# Altium schematic symbol library SS.SchLib: 14 symbols
Pins are listed as number, name and electrical type; pins without a type are passive.

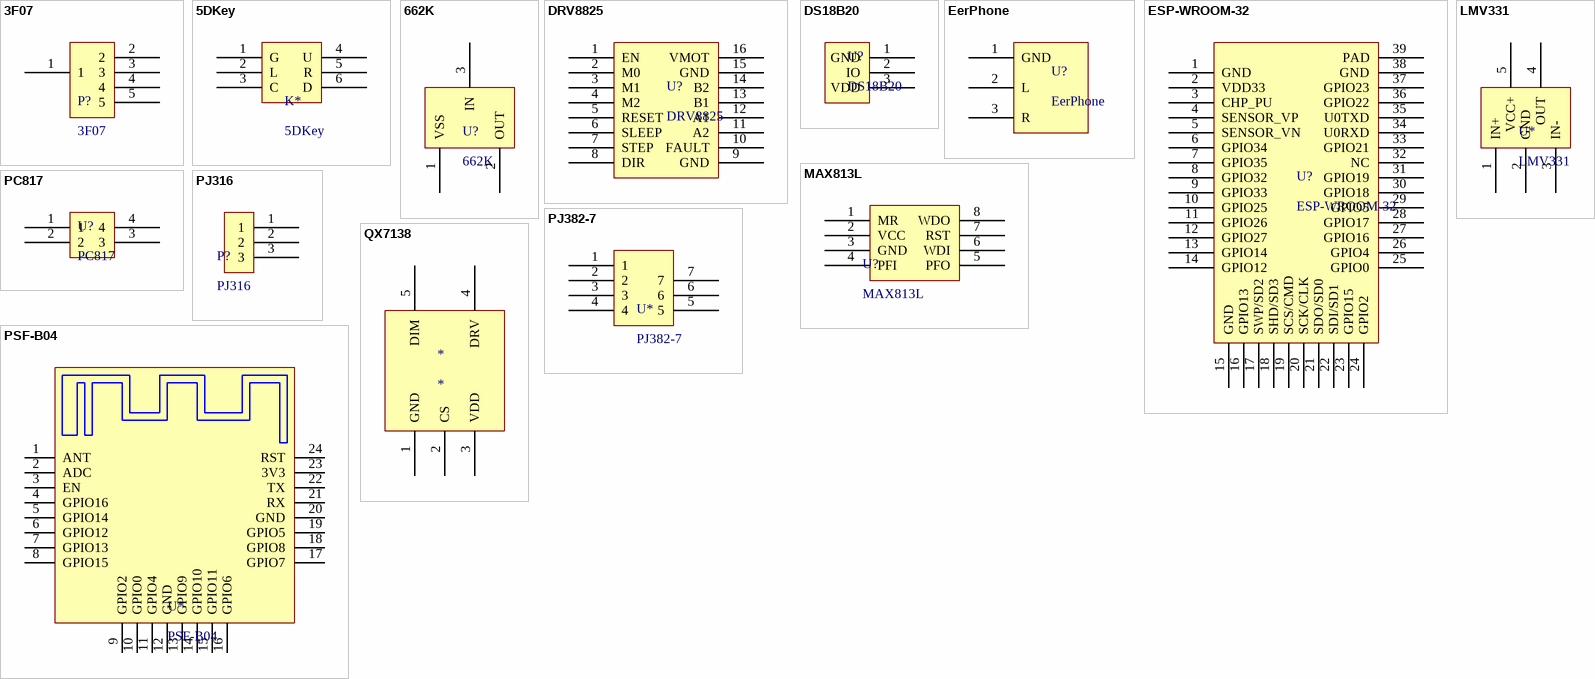
[diagram p0: symbols 3F07 to QX7138]

## 3F07
designator P?
EarPhone3.5
pins: 1, 2, 3, 4, 5

## 5DKey
designator K*
pins: 1 G, 2 L, 3 C, 4 U, 5 R, 6 D

## 662K
designator U?
footprint SOT-23 (SOT-23-3)
pins: 1 VSS, 2 OUT, 3 IN

## DRV8825
designator U?
pins: 1 EN, 2 M0, 3 M1, 4 M2, 5 RESET, 6 SLEEP, 7 STEP, 8 DIR, 9 GND, 10 FAULT, 11 A2, 12 A1, 13 B1, 14 B2, 15 GND, 16 VMOT

## DS18B20
designator U?
pins: 1 GND, 2 IO, 3 VDD

## EerPhone
designator U?
pins: 1 GND, 2 L, 3 R

## ESP-WROOM-32
designator U?
pins: 1 GND, 2 VDD33, 3 CHP_PU, 4 SENSOR_VP, 5 SENSOR_VN, 6 GPIO34, 7 GPIO35, 8 GPIO32, 9 GPIO33, 10 GPIO25, 11 GPIO26, 12 GPIO27, 13 GPIO14, 14 GPIO12, 15 GND, 16 GPIO13, 17 SWP/SD2, 18 SHD/SD3, 19 SCS/CMD, 20 SCK/CLK, 21 SDO/SD0, 22 SDI/SD1, 23 GPIO15, 24 GPIO2, 25 GPIO0, 26 GPIO4, 27 GPIO16, 28 GPIO17, 29 GPIO5, 30 GPIO18, 31 GPIO19, 32 NC, 33 GPIO21, 34 U0RXD, 35 U0TXD, 36 GPIO22, 37 GPIO23, 38 GND, 39 PAD

## LMV331
designator U*
LMV331-SOT23-5
footprint SOT-23-5
pins: 1 IN+, 2 GND, 3 IN-, 4 OUT, 5 VCC+

## MAX813L
designator U?
pins: 1 MR, 2 VCC, 3 GND, 4 PFI, 5 PFO, 6 WDI, 7 RST, 8 WDO

## PC817
designator U?
pins: 1, 2, 3, 4

## PJ316
designator P?
pins: 1, 2, 3

## PJ382-7
designator U*
pins: 1, 2, 3, 4, 5, 6, 7

## PSF-B04
designator U*
pins: 1 ANT, 2 ADC, 3 EN, 4 GPIO16, 5 GPIO14, 6 GPIO12, 7 GPIO13, 8 GPIO15, 9 GPIO2, 10 GPIO0, 11 GPIO4, 12 GND, 13 GPIO9, 14 GPIO10, 15 GPIO11, 16 GPIO6, 17 GPIO7, 18 GPIO8, 19 GPIO5, 20 GND, 21 RX, 22 TX, 23 3V3, 24 RST

## QX7138
designator *
pins: 1 GND, 2 CS, 3 VDD, 4 DRV, 5 DIM